# EAGLE library part TC74VHCT541A (library TheMaker_Logic_v5)
TOSHIBA TCVHCT541A
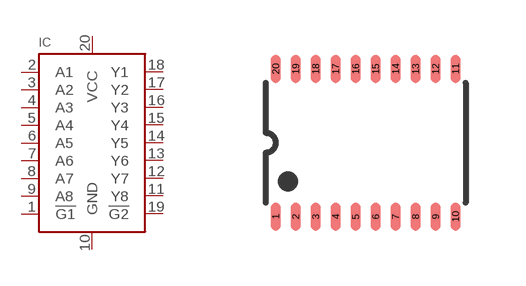
[diagram p2: symbol with the pads of VSSOP20; footprint VSSOP20]

Designator prefix IC

## TC74VHCT541A  [VSSOP20]
1  !G1
2  A1
3  A2
4  A3
5  A4
6  A5
7  A6
8  A7
9  A8
10  GND
11  Y8
12  Y7
13  Y6
14  Y5
15  Y4
16  Y3
17  Y2
18  Y1
19  !G2
20  VCC

## Footprint VSSOP20 (pad centres in mm)
TOSHIBA VSSOP 20 (US20)
smd 0.25 x 0.7: 1 -2.25,-1.85; 2 -1.75,-1.85; 3 -1.25,-1.85; 4 -0.75,-1.85; 5 -0.25,-1.85; 6 0.25,-1.85; 7 0.75,-1.85; 8 1.25,-1.85; 9 1.75,-1.85; 10 2.25,-1.85; 11 2.25,1.85; 12 1.75,1.85; 13 1.25,1.85; 14 0.75,1.85; 15 0.25,1.85; 16 -0.25,1.85; 17 -0.75,1.85; 18 -1.25,1.85; 19 -1.75,1.85; 20 -2.25,1.85